# EAGLE library part ADA364 (library ADA364)
PN532 NFC/RFID controller breakout board
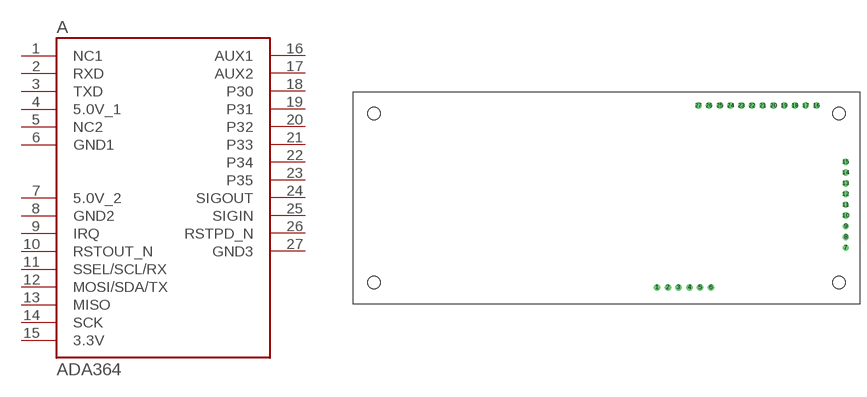
[diagram p0: symbol with the pads of ADAFRUIT_ADA364; footprint ADAFRUIT_ADA364]

Designator prefix A

## ADA364 (Availability: Unavailable; Description: PN532 NFC/RFID controller breakout board; MF: Adafruit Industries; MP: ADA364; Package: None; Price: None)  [ADAFRUIT_ADA364]
1  NC1  pas
2  RXD  pas
3  TXD  pas
4  5.0V_1  pas
5  NC2  pas
6  GND1  pas
7  5.0V_2  pas
8  GND2  pas
9  IRQ  pas
10  RSTOUT_N  pas
11  SSEL/SCL/RX  pas
12  MOSI/SDA/TX  pas
13  MISO  pas
14  SCK  pas
15  3.3V  pas
16  AUX1  pas
17  AUX2  pas
18  P30  pas
19  P31  pas
20  P32  pas
21  P33  pas
22  P34  pas
23  P35  pas
24  SIGOUT  pas
25  SIGIN  pas
26  RSTPD_N  pas
27  GND3  pas

## Footprint ADAFRUIT_ADA364 (pad centres in mm)
drill 1: 1 11.976,3.874; 2 14.516,3.874; 3 17.056,3.874; 4 19.596,3.874; 5 22.136,3.874; 6 24.676,3.874; 7 56.59,13.24; 8 56.59,15.78; 9 56.59,18.32; 10 56.59,20.86; 11 56.59,23.4; 12 56.59,25.94; 13 56.59,28.48; 14 56.59,31.02; 15 56.59,33.56; 16 49.67,46.866; 17 47.13,46.866; 18 44.59,46.866; 19 42.05,46.866; 20 39.51,46.866; 21 36.97,46.866; 22 34.43,46.866; 23 31.89,46.866; 24 29.35,46.866; 25 26.81,46.866; 26 24.27,46.866; 27 21.73,46.866
hole 3 at -55,45
hole 3 at -55,5
hole 3 at 55,5
hole 3 at 55,45